# Altium schematic symbol library SATA.SchLib: 2 symbols
Pins are listed as number, name and electrical type; pins without a type are passive.

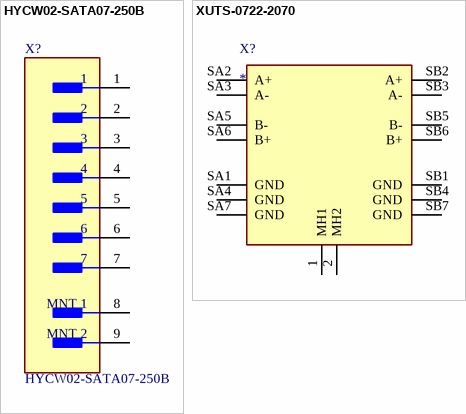
[diagram p0: symbols HYCW02-SATA07-250B to XUTS-0722-2070]

## HYCW02-SATA07-250B
designator X?
CONN HEADER 7POS HOR; Pitch: 1.27mm; Number of Circuits: 7; Number of Ports: 1; Gender: Male; Connector Type: SATA; Number of Contacts: 7; Length: FIXME; Mount: Surface Mount; Color: Black; Orientation: FIXME; Depth: FIXME; Number of Terminals/Pins: 7; Number of Positions: 7; Termination: Solder; Number of Rows: 1; LCSC Part #: C2926811
footprint HYCW02-SATA07-250B
pins: 1, 2, 3, 4, 5, 6, 7, 8 MNT 1, 9 MNT 2

## XUTS-0722-2070
designator X?
Connector
pins: 1 MH1, 2 MH2, SA1 GND, SA2 A+, SA3 A-, SA4 GND, SA5 B-, SA6 B+, SA7 GND, SB1 GND, SB2 A+, SB3 A-, SB4 GND, SB5 B-, SB6 B+, SB7 GND